# EAGLE library part MP6_OEM_PUMP_CONTROLLER (library PennMedicine)
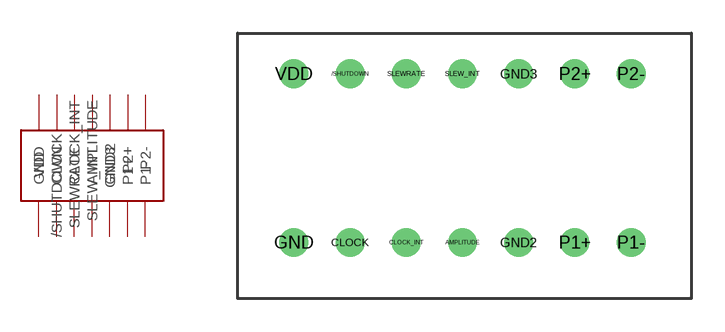
[diagram p0: symbol with the pads of MP6_OEM_PUMP_CONTROLLER; footprint MP6_OEM_PUMP_CONTROLLER]

Designator prefix -

## MP6_OEM_PUMP_CONTROLLER  [MP6_OEM_PUMP_CONTROLLER]
/SHUTDOWN  /SHUTDOWN
AMPLITUDE  AMPLITUDE
CLOCK  CLOCK
CLOCK_INT  CLOCK_INT
GND  GND
GND2  GND2
GND3  GND3
P1+  P1+
P1-  P1-
P2+  P2+
P2-  P2-
SLEW_INT  SLEW_INT
SLEWRATE  SLEWRATE
VDD  VDD

## Footprint MP6_OEM_PUMP_CONTROLLER (pad centres in mm)
drill 0.8: /SHUTDOWN 5.08,10.16; AMPLITUDE 10.16,2.54; CLOCK 5.08,2.54; CLOCK_INT 7.62,2.54; GND 2.54,2.54; GND2 12.7,2.54; GND3 12.7,10.16; P1+ 15.24,2.54; P1- 17.78,2.54; P2+ 15.24,10.16; P2- 17.78,10.16; SLEW_INT 10.16,10.16; SLEWRATE 7.62,10.16; VDD 2.54,10.16